# Altium footprint library PcbLib1.PcbLib: 1 footprints
Each footprint in its own frame and in the unit in brackets; x right, y up, seen from the top. Pads: shape width x height; smd on the part's side, far side on the other; paste and mask are expansions set on the pad; w line width, h text height; cw(c..) or ccw(c..) is an arc to the next point about the centre after c.
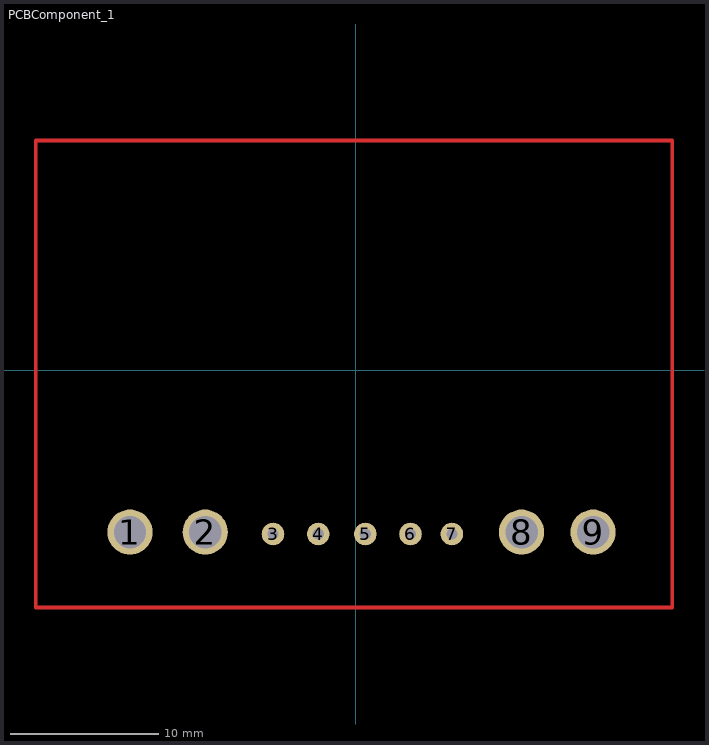
[diagram p0: the footprint, top view; thin cyan lines are the x and y axes]

## PCBComponent_1 [mil]
pads (9):
  round 120 hole 86: 1(-600,-430) 2(-400,-430) 8(440,-430) 9(630,-430)
  round 60 hole 30: 3(-220,-435) 4(-100,-435) 5(25,-435) 6(145,-435) 7(255,-435)
Top Layer:
  lines w10: -850,-630 840,-630 840,610 -850,610 -850,-630